# EAGLE library part PI4IOE5V96224ZLEX (library PI4IOE5V96224ZLEX)
Interface - I/O Expanders 24-bit I2C-bus I/O Expander Source: Datasheet <https://www.diodes.com/assets/Datasheets/PI4IOE5V96224.pdf>
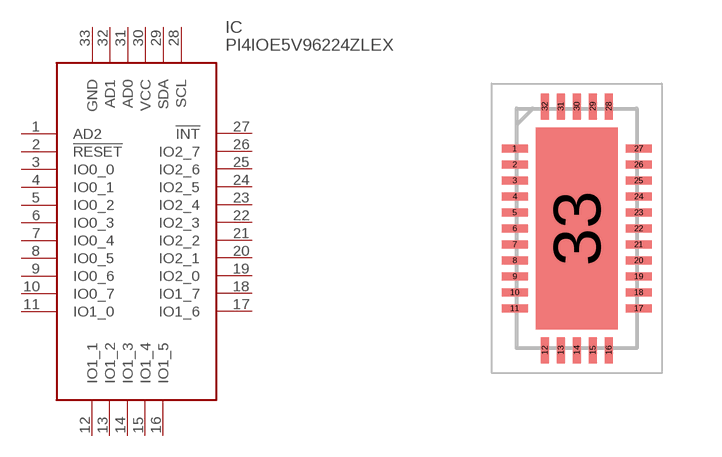
[diagram p0: symbol with the pads of QFN40P300X600X80-33N; footprint QFN40P300X600X80-33N]

Designator prefix IC

## PI4IOE5V96224ZLEX (Description: Interface - I/O Expanders 24-bit I2C-bus I/O Expander; Height: 0.8mm; Manufacturer_Name: Diodes Inc.; Manufacturer_Part_Number: PI4IOE5V96224ZLEX; Mouser_Part_Number: 729-I4IOE5V96224ZLEX; Mouser_Price-Stock: https://www.mouser.co.uk/ProductDetail/Diodes-Incorporated/PI4IOE5V96224ZLEX?qs=0lQeLiL1qybZKU%252B6WN8aKg%3D%3D)  [QFN40P300X600X80-33N]
1  AD2
2  !RESET
3  IO0_0
4  IO0_1
5  IO0_2
6  IO0_3
7  IO0_4
8  IO0_5
9  IO0_6
10  IO0_7
11  IO1_0
12  IO1_1
13  IO1_2
14  IO1_3
15  IO1_4
16  IO1_5
17  IO1_6
18  IO1_7
19  IO2_0
20  IO2_1
21  IO2_2
22  IO2_3
23  IO2_4
24  IO2_5
25  IO2_6
26  IO2_7
27  !INT
28  SCL
29  SDA
30  VCC
31  AD0
32  AD1
33  GND

## Footprint QFN40P300X600X80-33N (pad centres in mm)
PI3DPX1203BZLEX
smd 0.65 x 0.2: 1 -1.55,2; 2 -1.55,1.6; 3 -1.55,1.2; 4 -1.55,0.8; 5 -1.55,0.4; 6 -1.55,0; 7 -1.55,-0.4; 8 -1.55,-0.8; 9 -1.55,-1.2; 10 -1.55,-1.6; 11 -1.55,-2; 17 1.55,-2; 18 1.55,-1.6; 19 1.55,-1.2; 20 1.55,-0.8; 21 1.55,-0.4; 22 1.55,0; 23 1.55,0.4; 24 1.55,0.8; 25 1.55,1.2; 26 1.55,1.6; 27 1.55,2
smd 0.2 x 0.65: 12 -0.8,-3.05; 13 -0.4,-3.05; 14 0,-3.05; 15 0.4,-3.05; 16 0.8,-3.05; 28 0.8,3.05; 29 0.4,3.05; 30 0,3.05; 31 -0.4,3.05; 32 -0.8,3.05
smd 2.05 x 5.05: 33 0,0